# EAGLE library part ATX-24 (library common)
Mini FIT connector 24 pol Source: http://www.molex.com
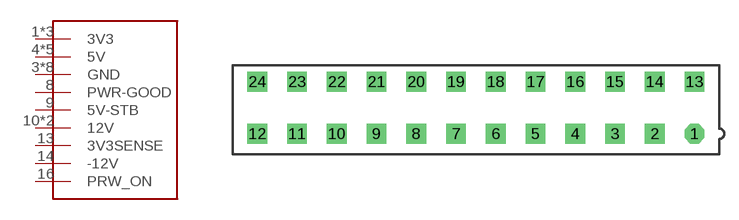
[diagram p29: symbol with the pads of 5566-24; footprint 5566-24]

Designator prefix X

## ATX-24 (MF: MOLEX; OC_FARNELL: unknown; OC_NEWARK: unknown)  [5566-24]
1  3V3
2  3V3
3  GND
4  5V
5  GND
6  5V
7  GND
8  PWR-GOOD
9  5V-STB
10  12V
11  12V
12  3V3
13  3V3SENSE
14  -12V
15  GND
16  PRW_ON
17  GND
18  GND
19  GND
21  5V
22  5V
23  5V
24  GND

## Footprint 5566-24 (pad centres in mm)
Mini-Fit Jr.™ Vertical Header, 4.20mm Pitch, Dual Row, 24 Circuits, without Snap-in Plastic Peg PCB Lock, Tin, Natural Datasheet <http://www.molex.com/pdm_docs/sd/039281243_sd.pdf>
drill 1.4 octagon: 1 23.1,-2.75
drill 1.4 square: 2 18.9,-2.75; 3 14.7,-2.75; 4 10.5,-2.75; 5 6.3,-2.75; 6 2.1,-2.75; 7 -2.1,-2.75; 8 -6.3,-2.75; 9 -10.5,-2.75; 10 -14.7,-2.75; 11 -18.9,-2.75; 12 -23.1,-2.75; 13 23.1,2.75; 14 18.9,2.75; 15 14.7,2.75; 16 10.5,2.75; 17 6.3,2.75; 18 2.1,2.75; 19 -2.1,2.75; 20 -6.3,2.75; 21 -10.5,2.75; 22 -14.7,2.75; 23 -18.9,2.75; 24 -23.1,2.75